# Altium footprint library FourKeysKeyboard.PcbLib: 3 footprints
Each footprint in its own frame and in the unit in brackets; x right, y up, seen from the top. Pads: shape width x height; smd on the part's side, far side on the other; paste and mask are expansions set on the pad; w line width, h text height; cw(c..) or ccw(c..) is an arc to the next point about the centre after c.
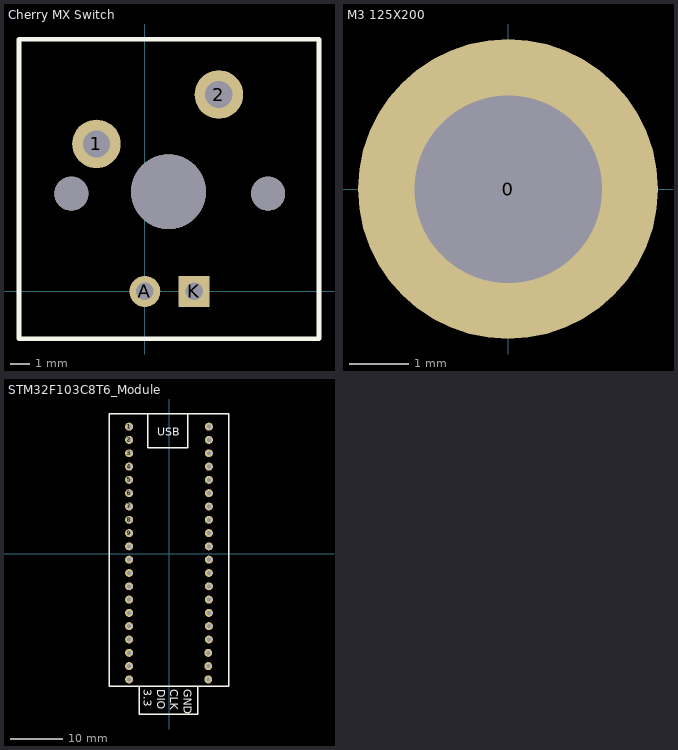
[diagram p0: the footprints below, top view; thin cyan lines are the x and y axes]

## Cherry MX Switch [mm] "樱桃轴体"
height 10
pads (7):
  round 2.5 hole 1.4: 1(-2.489,7.595) 2(3.81,10.135)
  round 1.6 hole 0.9: A(0,0)
  rect 1.6x1.6 hole 0.9: K(2.54,0)
  round 1.75 hole 1.75: ""(-3.785,5.029) ""(6.35,5.029)
  round 3.85 hole 3.85: ""(1.219,5.131)
Top Overlay:
  lines w0.254: -6.477,-2.438 -6.477,12.979 8.966,12.979 8.966,-2.438 -6.477,-2.438
3D body "凯?": height 3.45, standoff -15.75, extent -6.581,-2.669 9.019,12.931

## M3 125X200 [mil] "M3螺丝孔，孔125Mil，焊盘200Mil"
height 393.7
pads (1):
  round 200 hole 125: 0(0,0)

## STM32F103C8T6_Module [mil] "最常用的32小蓝板"
height 600
pads (40):
  round 60 hole 30: 1(-300,955) 2(-300,855) 3(-300,755) 4(-300,655) 5(-300,555) 6(-300,455) 7(-300,355) 8(-300,255) 9(-300,155) 10(-300,55) 11(-300,-45) 12(-300,-145) 13(-300,-245) 14(-300,-345) 15(-300,-445) 16(-300,-545) 17(-300,-645) 18(-300,-745) 19(-300,-845) 20(-300,-945) 21(300,955) 22(300,855) 23(300,755) 24(300,655) 25(300,555) 26(300,455) 27(300,355) 28(300,255) 29(300,155) 30(300,55) 31(300,-45) 32(300,-145) 33(300,-245) 34(300,-345) 35(300,-445) 36(300,-545) 37(300,-645) 38(295,-745) 39(295,-845) 40(295,-945)
Top Overlay:
  lines w10: -225,-1000 -225,-1205 215,-1205 215,-1000 ; -160,1045 -160,795 140,795 140,1045 ; -450,-995 -450,1050 450,1050 450,-995 -450,-995
  text "3.3" at -190,-1020 h60
  text "DIO" at -90,-1020 h60
  text "CLK" at 10,-1020 h60
  text "GND" at 110,-1020 h60
  text "USB" at -90,885 h60
3D body "HDR2.54-1P_M.STEP": height 334.65, standoff -118.11, extent -350,-995 -250,-895
3D body "HDR2.54-1P_M.STEP": height 334.65, standoff -118.11, extent -350,-895 -250,-795
3D body "HDR2.54-1P_M.STEP": height 334.65, standoff -118.11, extent -350,-795 -250,-695
3D body "HDR2.54-1P_M.STEP": height 334.65, standoff -118.11, extent -350,-695 -250,-595
3D body "HDR2.54-1P_M.STEP": height 334.65, standoff -118.11, extent -350,-595 -250,-495
3D body "HDR2.54-1P_M.STEP": height 334.65, standoff -118.11, extent -350,-495 -250,-395
3D body "HDR2.54-1P_M.STEP": height 334.65, standoff -118.11, extent -350,-395 -250,-295
3D body "HDR2.54-1P_M.STEP": height 334.65, standoff -118.11, extent -350,-295 -250,-195
3D body "HDR2.54-1P_M.STEP": height 334.65, standoff -118.11, extent -350,-195 -250,-95
3D body "HDR2.54-1P_M.STEP": height 334.65, standoff -118.11, extent -350,-95 -250,5
3D body "HDR2.54-1P_M.STEP": height 334.65, standoff -118.11, extent -350,5 -250,105
3D body "HDR2.54-1P_M.STEP": height 334.65, standoff -118.11, extent -350,105 -250,205
3D body "HDR2.54-1P_M.STEP": height 334.65, standoff -118.11, extent -350,205 -250,305
3D body "HDR2.54-1P_M.STEP": height 334.65, standoff -118.11, extent -350,305 -250,405
3D body "HDR2.54-1P_M.STEP": height 334.65, standoff -118.11, extent -350,405 -250,505
3D body "HDR2.54-1P_M.STEP": height 334.65, standoff -118.11, extent -350,505 -250,605
3D body "HDR2.54-1P_M.STEP": height 334.65, standoff -118.11, extent -350,605 -250,705
3D body "HDR2.54-1P_M.STEP": height 334.65, standoff -118.11, extent -350,705 -250,805
3D body "HDR2.54-1P_M.STEP": height 334.65, standoff -118.11, extent -350,805 -250,905
3D body "HDR2.54-1P_M.STEP": height 334.65, standoff -118.11, extent -350,905 -250,1005
3D body "HDR2.54-1P_M.STEP": height 334.65, standoff -118.11, extent 250,-995 350,-895
3D body "HDR2.54-1P_M.STEP": height 334.65, standoff -118.11, extent 250,-895 350,-795
3D body "HDR2.54-1P_M.STEP": height 334.65, standoff -118.11, extent 250,-795 350,-695
3D body "HDR2.54-1P_M.STEP": height 334.65, standoff -118.11, extent 250,-695 350,-595
3D body "HDR2.54-1P_M.STEP": height 334.65, standoff -118.11, extent 250,-595 350,-495
3D body "HDR2.54-1P_M.STEP": height 334.65, standoff -118.11, extent 250,-495 350,-395
3D body "HDR2.54-1P_M.STEP": height 334.65, standoff -118.11, extent 250,-395 350,-295
3D body "HDR2.54-1P_M.STEP": height 334.65, standoff -118.11, extent 250,-295 350,-195
3D body "HDR2.54-1P_M.STEP": height 334.65, standoff -118.11, extent 250,-195 350,-95
3D body "HDR2.54-1P_M.STEP": height 334.65, standoff -118.11, extent 250,-95 350,5
3D body "HDR2.54-1P_M.STEP": height 334.65, standoff -118.11, extent 250,5 350,105
3D body "HDR2.54-1P_M.STEP": height 334.65, standoff -118.11, extent 250,105 350,205
3D body "HDR2.54-1P_M.STEP": height 334.65, standoff -118.11, extent 250,205 350,305
3D body "HDR2.54-1P_M.STEP": height 334.65, standoff -118.11, extent 250,305 350,405
3D body "HDR2.54-1P_M.STEP": height 334.65, standoff -118.11, extent 250,405 350,505
3D body "HDR2.54-1P_M.STEP": height 334.65, standoff -118.11, extent 250,505 350,605
3D body "HDR2.54-1P_M.STEP": height 334.65, standoff -118.11, extent 250,605 350,705
3D body "HDR2.54-1P_M.STEP": height 334.65, standoff -118.11, extent 250,705 350,805
3D body "HDR2.54-1P_M.STEP": height 334.65, standoff -118.11, extent 250,805 350,905
3D body "HDR2.54-1P_M.STEP": height 334.65, standoff -118.11, extent 250,905 350,1005
3D body "STM32F103C8T6_Blue_Pill v6.step": height 798.03, standoff 78.74, extent -450,-1178.07 450,1088.07